# Altium schematic symbol library USB3318.SchLib: 1 symbol
Pins are listed as number, name and electrical type; pins without a type are passive.

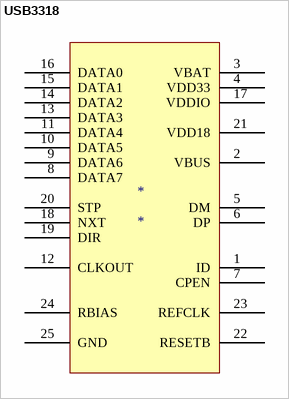
[diagram p0: symbol USB3318]

## USB3318
designator *
footprint QFN50P400X400-24V9M (QFN, 24-Leads, Body 4x4mm, Pitch 0.5mm, IPC Low Density)
pins: 1 ID, 2 VBUS, 3 VBAT, 4 VDD33, 5 DM, 6 DP, 7 CPEN, 8 DATA7, 9 DATA6, 10 DATA5, 11 DATA4, 12 CLKOUT, 13 DATA3, 14 DATA2, 15 DATA1, 16 DATA0, 17 VDDIO, 18 NXT, 19 DIR, 20 STP, 21 VDD18, 22 RESETB, 23 REFCLK, 24 RBIAS, 25 GND